# Altium schematic symbol library UserSchlib.SchLib: 86 symbols
Pins are listed as number, name and electrical type; pins without a type are passive.

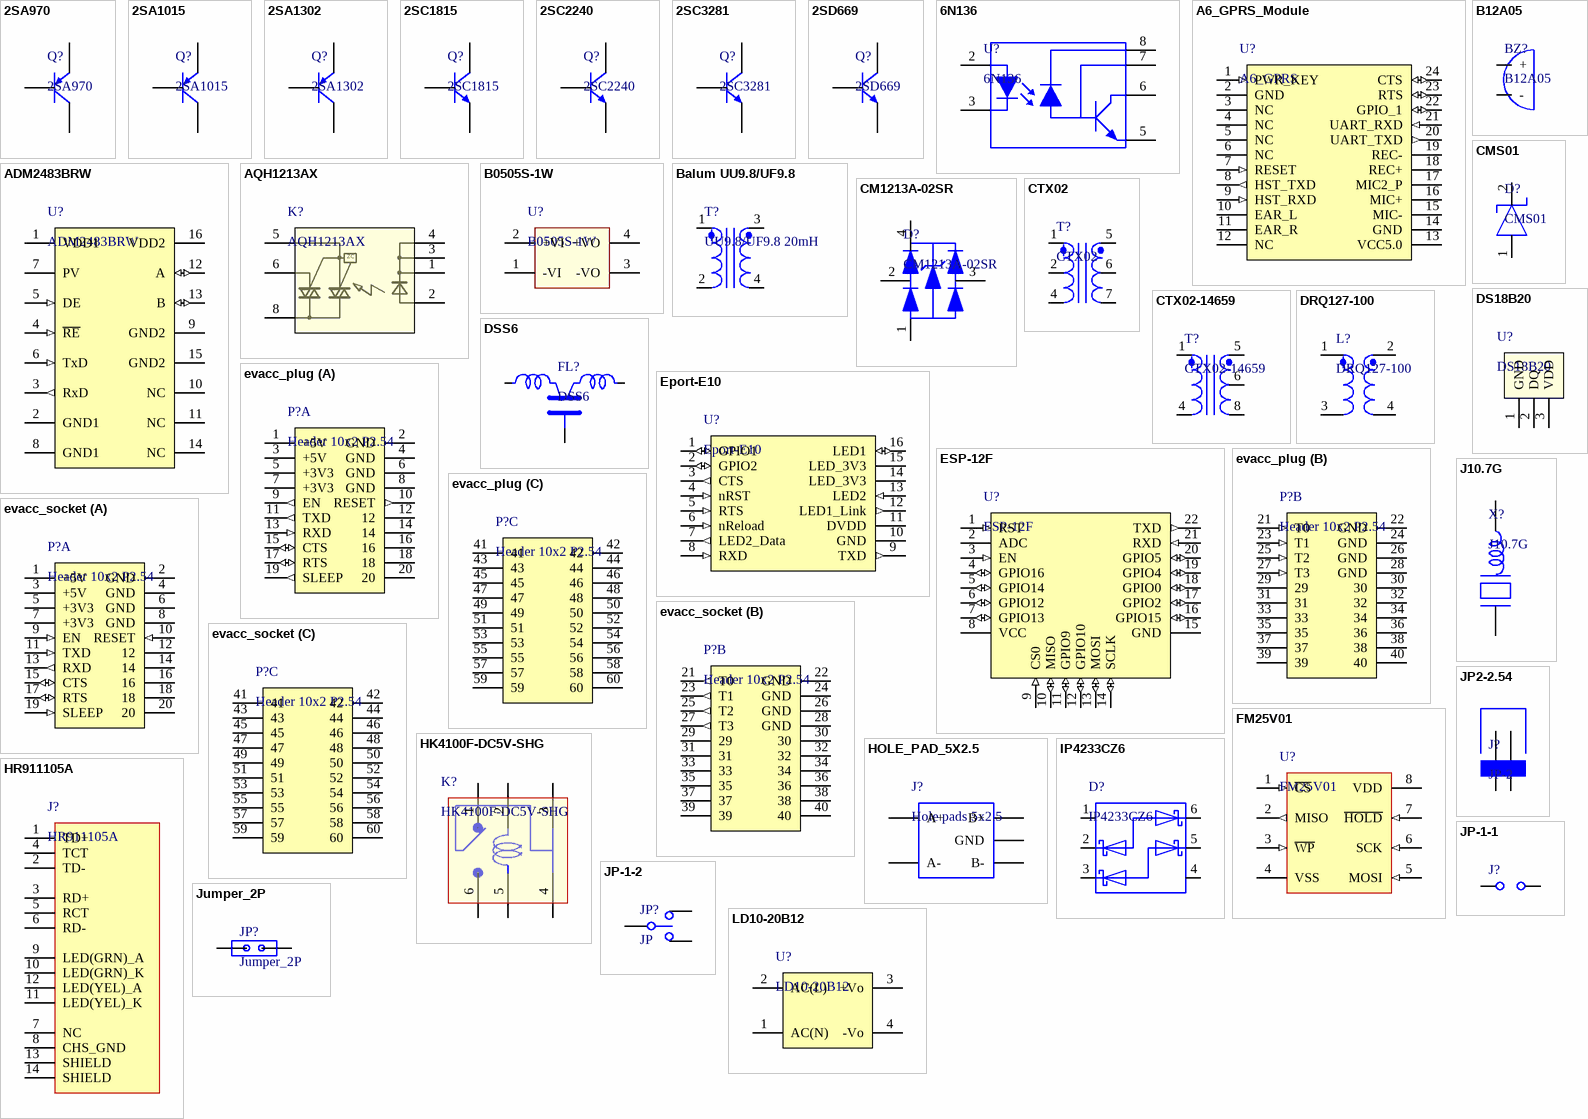
[diagram p0: symbols 2SA970 to LD10-20B12]

## 2SA970
designator Q?
TOSHIBA Transistor Silicon PNP Epitaxial Type for low noise audio amplifier applications
footprint TO-92 (TO, Flat Index; 3 In-Line, Axial Leads; Body Dia. 4.6mm; Leads 0.41 x 0.39 mm (max))
simulation model Model Name (Model Description)
pins: 1 E, 2 C, 3 B

## 2SA1015
designator Q?
TOSHIBA Transistor Silicon PNP Epitaxial Type
footprint TO-92 (TO, Flat Index; 3 In-Line, Axial Leads; Body Dia. 4.6mm; Leads 0.41 x 0.39 mm (max))
simulation model 2SA1015 (Model Description)
pins: 1 E, 2 C, 3 B

## 2SA1302
designator Q?
Silicon PNP expitaxial type for general purpose switching and  amplifier applications
footprint 2-21F1A (Toshiba); pin to pad 1>3 3>1
simulation model 2SA1302 (Model Description)
pins: 1 E, 2 C, 3 B

## 2SC1815
designator Q?
Toshiba transistor silicon NPN expitaxial type
footprint TO-92 (TO, Flat Index; 3 In-Line, Axial Leads; Body Dia. 4.6mm; Leads 0.41 x 0.39 mm (max))
simulation model 2SC1815 (Model Description)
pins: 1 E, 2 C, 3 B

## 2SC2240
designator Q?
TOSHIBA Transistor Silicon NPN Epitaxial Type Low Noise Audio Amplifier Applications
footprint TO-92 (TO, Flat Index; 3 In-Line, Axial Leads; Body Dia. 4.6mm; Leads 0.41 x 0.39 mm (max))
simulation model Model Name (Model Description)
pins: 1 E, 2 C, 3 B

## 2SC3281
designator Q?
Silicon NPN triple diffused type for power amplifier application
footprint 2-21F1A (Toshiba); pin to pad 1>3 3>1
simulation model 2SC3281 (Model Description)
pins: 1 E, 2 C, 3 B

## 2SD669
designator Q?
Low frequency power amplifier complementary pair with 2SB649/A
footprint TO-126 Mod
simulation model 2SD669 (Model Description)
pins: 1 E, 2 C, 3 B

## 6N136
designator U?
High Speed Optocoupler, 1 Mb/s, EverLight
footprint DIP-8 (DIP, 8-Pin, Row Spacing 7.62 mm, Pitch 2.54 mm)
pins: 2, 3, 5, 6, 7, 8

## A6_GPRS_Module
designator U?, comment A6_GPRS
GPRS module; Manufacturer: Ai ThinkerTecnology; Price: 23.8
footprint A6_GPRS_MOD
pins: 1 PWR_KEY (in), 2 GND (power), 3 NC (power), 4 NC (power), 5 NC (power), 6 NC (power), 7 RESET (in), 8 HST_TXD (out), 9 HST_RXD (in), 10 EAR_L, 11 EAR_R, 12 NC (power), 13 VCC5.0 (power), 14 GND (power), 15 MIC-, 16 MIC+, 17 MIC2_P, 18 REC+, 19 REC-, 20 UART_TXD (out), 21 UART_RXD (in), 22 GPIO_1 (io), 23 RTS (io), 24 CTS (io)

## ADM2483BRW
designator U?
ADI isolated RS-485 transceiver; Manufacturer: ADI; Price: 8.2
footprint RW16 (ADM2483 footprint)
pins: 1 VDD1 (power), 2 GND1 (power), 3 RxD (out), 4 ~{RE} (in), 5 DE (in), 6 TxD (in), 7 PV, 8 GND1 (power), 9 GND2 (power), 10 NC, 11 NC, 12 A (io), 13 B (io), 14 NC, 15 GND2 (power), 16 VDD2 (power)

## AQH1213AX
designator K?
AQ-H Relay; Manufacturer: Panasonic
footprint AQH1213AX
pins: 1, 2, 3, 4, 5 (power), 6 (power), 8 (power)
text: ZC

## B12A05
designator BZ?
Buzzor dc 5V dia12 h10
footprint BZ12/10mm
pins: 1 + (power), 2 - (power)

## B0505S-1W
designator U?
5V isolated DC-DC converter
footprint B0505S-W1 (DC-DC converter for RS485)
pins: 1 -VI, 2 +VI, 3 -VO, 4 +VO

## Balum UU9.8/UF9.8
designator T?, comment UU9.8/UF9.8 20mH
Balum
footprint UU9.8/UF9.8 (Balum)
pins: 1, 2, 3, 4

## CM1213A-02SR
designator D?
ON ESD protection diode for USB2.0, DVI, HDMI...
footprint SOT143N (SOT143, 4-Leads, Body 2.9x1.3mm, Pitch 1.9mm, Lead Span 2.5mm, IPC Medium Density)
pins: 1 Vn, 2 CH1, 3 CH2, 4 Vp

## CMS01
designator D?
TOSHIBA Schottky Barrier Rectifier
footprint 3-4E1A (TOSHIBA Schottky Barrier Rectifier)
pins: 1 A, 2 K

## CTX02
designator T?
Pri-100uH Sec-450uH
footprint CTX02
pins: 1, 2, 4, 5, 6, 7

## CTX02-14659
designator T?
XFMR,PUSH-PULL 547uH,ER9.
footprint CTX02-14569
pins: 1, 4, 5, 6, 8

## DRQ127-100
designator L?
Dual inductor
footprint DRQ127 (Dual inductor)
pins: 1, 2, 3, 4

## DS18B20
designator U?
Digital Temperature sensor; Manufacturer: Maxim; Price: *
footprint Model Name (Footprint not found)
pins: 1 GND, 2 DQ, 3 VDD

## DSS6
designator FL?
Murata EMI suppression filter; Manufacturer: Murata; Price: 0.5
footprint DSS6 (Murata EMI supression filter)
pins: 1, 2, 3

## Eport-E10
designator U?
http://www.iotworkshop.com
pins: 1 GPIO1 (io), 2 GPIO2 (io), 3 CTS (out), 4 nRST (in), 5 RTS (in), 6 nReload (in), 7 LED2_Data (out), 8 RXD (in), 9 TXD (out), 10 GND (power), 11 DVDD (power), 12 LED1_Link (out), 13 LED2 (in), 14 LED_3V3 (power), 15 LED_3V3 (power), 16 LED1 (io)

## ESP-12F
designator U?
Wi-Fi module; Manufacturer: Ai-Thinker; Price: 11.8
footprint ESP-12F (Ai-Thinker Wi-Fi module)
pins: 1 RST (in), 2 ADC, 3 EN (in), 4 GPIO16 (io), 5 GPIO14 (io), 6 GPIO12 (io), 7 GPIO13 (io), 8 VCC (power), 9 CS0 (in), 10 MISO (io), 11 GPIO9 (io), 12 GPIO10 (io), 13 MOSI (io), 14 SCLK (io), 15 GND (power), 16 GPIO15 (io), 17 GPIO2 (io), 18 GPIO0 (io), 19 GPIO4 (io), 20 GPIO5 (io), 21 RXD (in), 22 TXD (out)

## evacc_plug
designator P?, comment Header 10x2 P2.54
dual row 20 pins P2.54
footprint evacc_socket
part A pins: 1 +5V (power), 2 GND (power), 3 +5V (power), 4 GND (power), 5 +3V3 (power), 6 GND (power), 7 +3V3 (power), 8 GND (power), 9 EN (out), 10 RESET (out), 11 TXD (out), 12 (power), 13 RXD (in), 14 (power), 15 CTS (io), 16 (power), 17 RTS (io), 18 (power), 19 SLEEP (out), 20 (power)
part B pins: 21 T0 (in), 22 GND (power), 23 T1 (in), 24 GND (power), 25 T2 (in), 26 GND (power), 27 T3 (in), 28 GND (power), 29 (power), 30 (power), 31 (power), 32 (power), 33 (power), 34 (power), 35 (power), 36 (power), 37 (power), 38 (power), 39 (power), 40 (power)
part C pins: 41 (power), 42 (power), 43 (power), 44 (power), 45 (power), 46 (power), 47 (power), 48 (power), 49 (power), 50 (power), 51 (power), 52 (power), 53 (power), 54 (power), 55 (power), 56 (power), 57 (power), 58 (power), 59 (power), 60 (power)

## evacc_socket
designator P?, comment Header 10x2 P2.54
dual row 20 pins P2.54
footprint evacc_socket
part A pins: 1 +5V (power), 2 GND (power), 3 +5V (power), 4 GND (power), 5 +3V3 (power), 6 GND (power), 7 +3V3 (power), 8 GND (power), 9 EN (in), 10 RESET (in), 11 TXD (in), 12 (power), 13 RXD (out), 14 (power), 15 CTS (io), 16 (power), 17 RTS (io), 18 (power), 19 SLEEP (in), 20 (power)
part B pins: 21 T0 (out), 22 GND (power), 23 T1 (out), 24 GND (power), 25 T2 (out), 26 GND (power), 27 T3 (out), 28 GND (power), 29 (power), 30 (power), 31 (power), 32 (power), 33 (power), 34 (power), 35 (power), 36 (power), 37 (power), 38 (power), 39 (power), 40 (power)
part C pins: 41 (power), 42 (power), 43 (power), 44 (power), 45 (power), 46 (power), 47 (power), 48 (power), 49 (power), 50 (power), 51 (power), 52 (power), 53 (power), 54 (power), 55 (power), 56 (power), 57 (power), 58 (power), 59 (power), 60 (power)

## FM25V01
designator U?
Cypress 128K bits F-RAM
footprint SO8 (Small Outline; 8 Leads; Body Width 3.9 mm; Pitch 1.27 mm)
pins: 1 ~{CS} (in), 2 MISO (out), 3 ~{WP} (in), 4 VSS (power), 5 MOSI (in), 6 SCK (in), 7 ~{HOLD} (in), 8 VDD (power)

## HK4100F-DC5V-SHG
designator K?
HUI KE DC5V relay
footprint HK4100F-DC5V-SHG (HUI KE relay)
pins: 1, 2, 3, 4, 5, 6

## HOLE_PAD_5X2.5
designator J?, comment Hole pads 5x2.5
footprint HOLE_PAD_5_2.5 (High voltage output pads for energizer)
pins: 1 A+, 2 A-, 3 B+, 4 B-, 5 GND

## HR911105A
designator J?
RJ45 with two LEDs
footprint HR911105A (RJ45 connector w/ magnetic & LEDs)
pins: 1 TD+, 2 TD-, 3 RD+, 4 TCT, 5 RCT, 6 RD-, 7 NC, 8 CHS_GND, 9 LED(GRN)_A, 10 LED(GRN)_K, 11 LED(YEL)_K, 12 LED(YEL)_A, 13 SHIELD, 14 SHIELD

## IP4233CZ6
designator D?
NXP Ultra low capacitance ESD protection for Ethernet ports
footprint SOT363_L (SOT363, 6-Leads, Body 2x1.3mm, Pitch 0.65mm, Lead Span 2.1mm, IPC High Density)
footprint SOT363_M (SOT363, 6-Leads, Body 2x1.3mm, Pitch 0.65mm, Lead Span 2.1mm, IPC Low Density)
footprint SOT363_N (SOT363, 6-Leads, Body 2x1.3mm, Pitch 0.65mm, Lead Span 2.1mm, IPC Medium Density)
pins: 1, 2, 3, 4, 5, 6

## J10.7G
designator X?
Ceramic discriminator
footprint J10.7G (Ceramic discriminator 10.7MHz)
pins: 1, 2

## JP2-2.54
designator J?, comment JP-2
footprint JP2-P2.54 (2-pin jumper P2.54)
pins: 1 (power), 2 (power)

## JP-1-1
designator J?, comment JP1-1  (value not drawn)  (no BOM)
footprint JP-1-1 (2 points jumper)
pins: 1, 2

## JP-1-2
designator JP?, comment JP
footprint JP-1-2
pins: 1, 2, 3

## Jumper_2P
designator JP?
2-Pin jumper
footprint HDR1X2
pins: 1 0, 2 1

## LD10-20B12
designator U?
10W AC/DC converter, 12V output; Manufacturer: Mornsun; Price: *
pins: 1 AC(N) (power), 2 AC(L) (power), 3 +Vo (power), 4 -Vo (power)

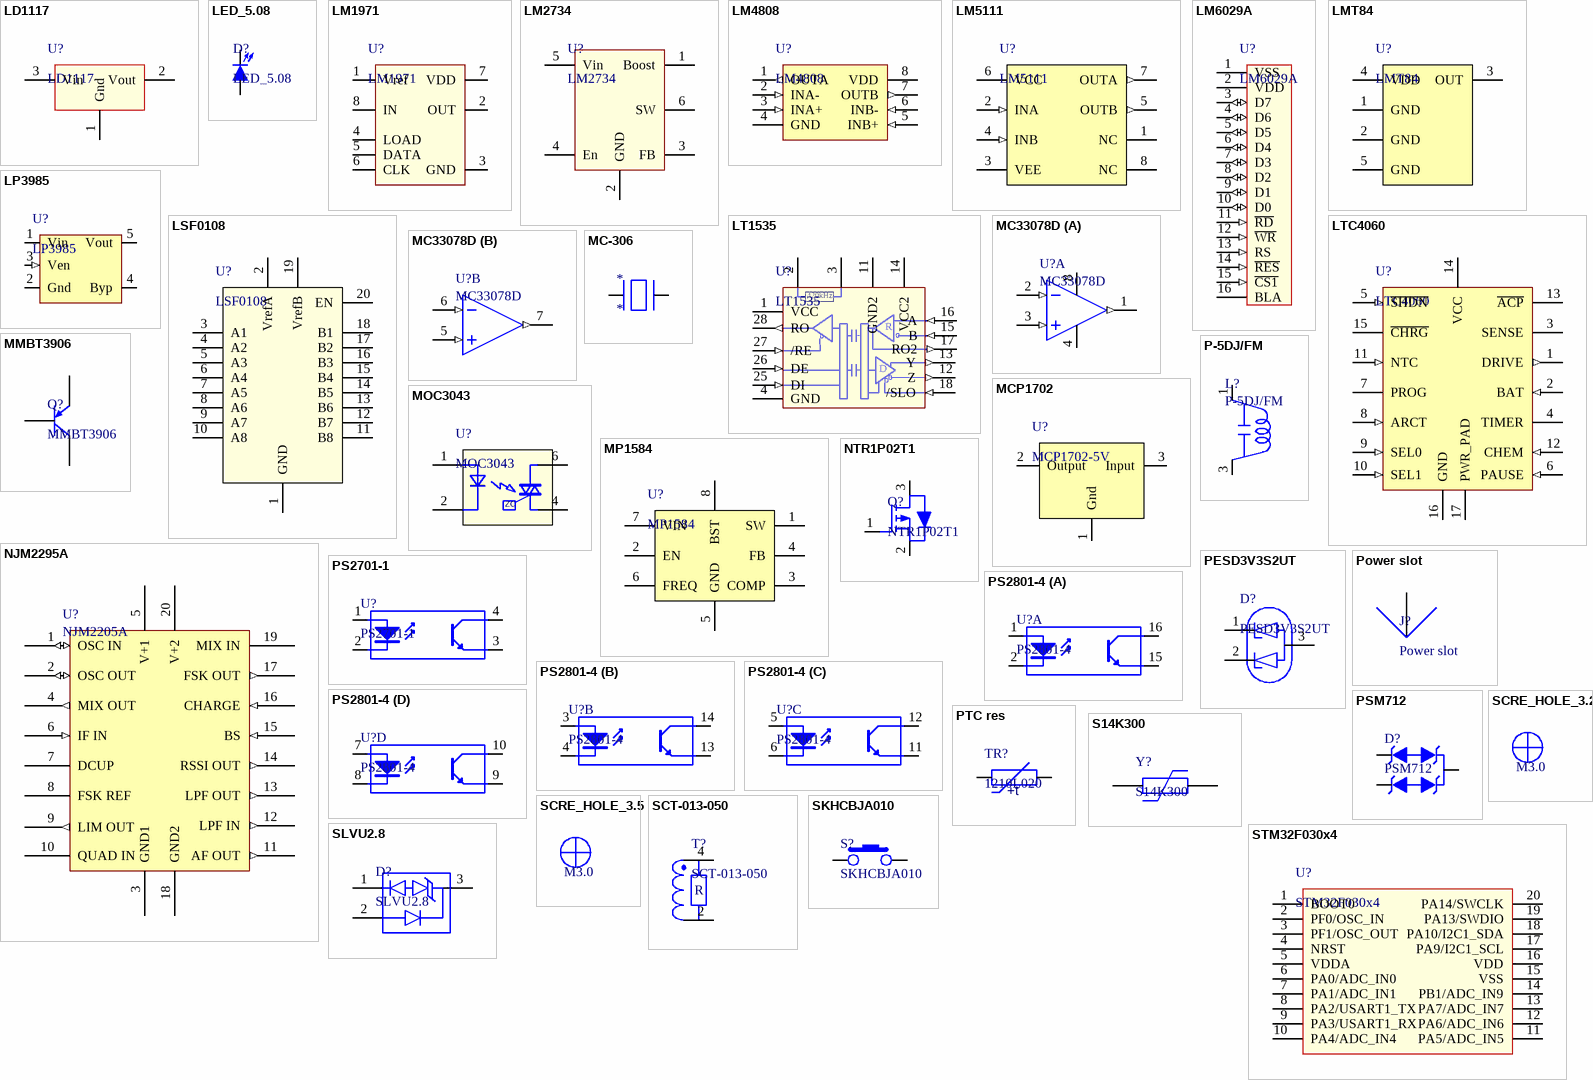
[diagram p1: symbols LD1117 to STM32F030x4]

## LD1117
designator U?
Low drop voltage regulator
footprint SOT223 (SOT-223/SC-73; 4 Leads; Body 6.7 x 7.3 mm, inc. leads (LxW max))
pins: 1 Gnd (power), 2 Vout (power), 3 Vin (power), 4 (power) hidden

## LED_5.08
designator D?
Through hole LED dia.5.08
footprint LED5.08/2.54-2
pins: 1 A, 2 K

## LM1971
designator U?
Audio attenuator
footprint SO8 (Small Outline; 8 Leads; Body Width 3.9 mm; Pitch 1.27 mm)
pins: 1 Vref, 2 OUT, 3 GND, 4 LOAD, 5 DATA, 6 CLK, 7 VDD, 8 IN

## LM2734
designator U?
Switching regulator
footprint SOT26A-6N (SOT23, 6-Leads, Body 2.9x1.7mm, Pitch 0.95mm, Lead Span 2.8mm, IPC Medium Density)
pins: 1 Boost, 2 GND (power), 3 FB, 4 En, 5 Vin (power), 6 SW

## LM4808
designator U?
Head phone amplifier 105mW
footprint SO8 (Small Outline; 8 Leads; Body Width 3.9 mm; Pitch 1.27 mm)
pins: 1 OUTA (out), 2 INA- (in), 3 INA+ (in), 4 GND (power), 5 INB+ (in), 6 INB- (in), 7 OUTB (out), 8 VDD (power)

## LM5111
designator U?
Dual 5-A CompoundGateDriver; Manufacturer: TI; Price: *
pins: 1 NC, 2 INA (in), 3 VEE (power), 4 INB (in), 5 OUTB (out), 6 VCC (power), 7 OUTA (out), 8 NC

## LM6029A
designator U?
Topway LCD module 3.3V
footprint LM6029A (LCD module)
pins: 1 VSS (power), 2 VDD (power), 3 D7 (io), 4 D6 (io), 5 D5 (io), 6 D4 (io), 7 D3 (io), 8 D2 (io), 9 D1 (io), 10 D0 (io), 11 ~{RD} (in), 12 ~{WR} (in), 13 RS (in), 14 ~{RES} (in), 15 ~{CS1} (in), 16 BLA (power)

## LMT84
designator U?
Analog Temperature Sensors with Class-AB Output; Manufacturer: TI
pins: 1 GND (power), 2 GND (power), 3 OUT (power), 4 VDD (power), 5 GND (power)

## LP3985
designator U?
150mA Low-Noise LDO
footprint SOT23-5AL (SOT23, 5-Leads, Body 2.9x1.6mm, Pitch 0.95mm, Lead Span 2.8mm, IPC High Density)
pins: 1 Vin (power), 2 Gnd (power), 3 Ven (in), 4 Byp, 5 Vout

## LSF0108
designator U?
8-bit bidirectional level translator; Manufacturer: TI; Price: *
pins: 1 GND (power), 2 VrefA (power), 3 A1 (power), 4 A2 (power), 5 A3 (power), 6 A4 (power), 7 A5 (power), 8 A6 (power), 9 A7 (power), 10 A8 (power), 11 B8 (power), 12 B7 (power), 13 B6 (power), 14 B5 (power), 15 B4 (power), 16 B3 (power), 17 B2 (power), 18 B1 (power), 19 VrefB (power), 20 EN (power)

## LT1535
designator U?
Isolated RS485 Transceiver
footprint SW28
pins: 1 VCC (power), 2 ST1, 3 ST2, 4 GND (power), 11 GND2 (power), 12 Z (out), 13 Y (out), 14 VCC2 (power), 15 B (in), 16 A (in), 17 RO2 (out), 18 /SLO (in), 25 DI (in), 26 DE (in), 27 /RE (in), 28 RO (out)
text: 420kHz; R; D

## LTC4060
designator U?
Linera NiMH/NiCd battery charger
footprint TSSOP16 w/ exposed metal die mount pads
pins: 1 DRIVE (out), 2 BAT (in), 3 SENSE, 4 TIMER, 5 ~{SHDN} (in), 6 PAUSE (in), 7 PROG, 8 ARCT (in), 9 SEL0 (in), 10 SEL1 (in), 11 NTC (in), 12 CHEM (in), 13 ~{ACP} (oc), 14 VCC, 15 ~{CHRG} (oc), 16 GND (power), 17 PWR_PAD (power)

## MC33078D
designator U?
Low noise dual op-amp
footprint SO8_N (8-Pin Small Outline Integrated Circuit 1.27 mm Pitch, IPC Medium Density)
part A pins: 1 (out), 2 - (in), 3 + (in), 4 V- (power), 8 V+ (power)
part B pins: 5 + (in), 6 - (in), 7 1 (out)

## MC-306
designator *
footprint MC306 (Epson 32.768kHz crystal)
pins: 1, 4

## MCP1702
designator U?, comment MCP1702-5V
Microchip Low drop voltage regulator
footprint SOT23-3N (SOT23, 3-Leads, Body 2.9x1.3mm, Pitch 0.95mm, Lead Span 2.5mm, IPC Medium Density)
pins: 1 Gnd (power), 2 Output, 3 Input (power)

## MMBT3906
designator Q?
General purpose small signal PNP transistor
footprint SOT23-3N (SOT23, 3-Leads, Body 2.9x1.3mm, Pitch 0.95mm, Lead Span 2.5mm, IPC Medium Density)
pins: 1 B, 2 E, 3 C

## MOC3043
designator U?
Optical isolator triac driver; Manufacturer: Panasonic
footprint MOC3043
pins: 1, 2, 4, 6 (power)
text: ZC

## MP1584
designator U?
3A 1.5MHz, 28V step down converter; Manufacturer: MSP; Price: *
footprint SOIC8E
pins: 1 SW (power), 2 EN (power), 3 COMP (power), 4 FB (power), 5 GND (power), 6 FREQ (power), 7 VIN (power), 8 BST (power)

## NJM2295A
designator U?, comment NJM2205A
NJR FM IF IC for the remote keyless entry  system (RKE)
footprint SSOP20 (SSOP, Plastic; 20 Leads; Body Width 5.3 mm; Pitch 0.65 mm)
pins: 1 OSC IN (io), 2 OSC OUT (io), 3 GND1, 4 MIX OUT (out), 5 V+1, 6 IF IN (in), 7 DCUP, 8 FSK REF, 9 LIM OUT (out), 10 QUAD IN, 11 AF OUT (out), 12 LPF IN (out), 13 LPF OUT (out), 14 RSSI OUT (out), 15 BS (in), 16 CHARGE (in), 17 FSK OUT (out), 18 GND2 (power), 19 MIX IN, 20 V+2

## NTR1P02T1
designator Q?
ON Power MOSFET  ?20 V, ?1 A, P?Channel
footprint SOT23-3L (SOT23, 3-Leads, Body 2.9x1.3mm, Pitch 0.95mm, Lead Span 2.5mm, IPC High Density)
pins: 1 G, 2 S, 3 D

## P-5DJ/FM
designator L?
Sumida IFT coil 10.7MHz
footprint P-5DJ/FM (Sumida IFT)
pins: 1, 3

## PESD3V3S2UT
designator D?
ESD protection diode 3.3V; Manufacturer: NXP
footprint SOT23-3N (SOT23, 3-Leads, Body 2.9x1.3mm, Pitch 0.95mm, Lead Span 2.5mm, IPC Medium Density)
pins: 1, 2, 3

## Power slot
designator J?
footprint Power slot
pins: 1

## PS2701-1
designator U?
Photocoupler
footprint SOP4 for PS2701-1
pins: 1 A "Anode", 2 K "Cathode", 3 E "Emitter", 4 C "Collector"

## PS2801-4
designator U?
Photocoupler
footprint SOP16 for PS2801-4 - duplicate
part A pins: 1 A "Anode", 2 K "Cathode", 15 E "Emitter", 16 C "Collector"
part B pins: 3 A "Anode", 4 K "Cathode", 13 E "Emitter", 14 C "Collector"
part C pins: 5 A "Anode", 6 K "Cathode", 11 E "Emitter", 12 C "Collector"
part D pins: 7 A "Anode", 8 K "Cathode", 9 E "Emitter", 10 C "Collector"

## PSM712
designator D?
asymmetrical transient voltage suppressor (TVS) array, designed specifically for RS-485; Manufacturer: Protek
footprint SOT23-3N (SOT23, 3-Leads, Body 2.9x1.3mm, Pitch 0.95mm, Lead Span 2.5mm, IPC Medium Density)
pins: 1, 2, 3

## PTC res
designator TR?, comment 1210L020
PTC resistor; Manufacturer: Littlefuse; Price: *
footprint RESC3225N (Chip Resistor, Body 3.2x2.5mm, IPC Medium Density)
pins: 1, 2
text: +t

## S14K300
designator Y?
Varistor 300V
pins: 1 (power), 2 (power)

## SCRE_HOLE_3.2
designator H?, comment M3.0  (value not drawn)  (no BOM)
Screw hole for M3.0
footprint SCREW_HOLE_3.2

## SCRE_HOLE_3.5
designator H?, comment M3.0  (value not drawn)  (no BOM)
Screw hole for M3.0
footprint SCREW_HOLE_3.5

## SCT-013-050
designator T?
Current transformer 50A input 1V output; Manufacturer: www.yhdc.com; Price: ?
footprint PJ-313 (Phone jack 3.5mm 3 pins)
pins: 2, 4
text: R

## SKHCBJA010
designator S?
Alps tact switch 12x12
footprint SKHCBJA010 (Alps SKHC series switch 12x12)
pins: 1, 3

## SLVU2.8
designator D?
Semtech TVS for Ethernet 10/100
footprint SOT23-3N (SOT23, 3-Leads, Body 2.9x1.3mm, Pitch 0.95mm, Lead Span 2.5mm, IPC Medium Density)
pins: 1, 2, 3

## STM32F030x4
designator U?
ST micro-controller
pins: 1 BOOT0, 2 PF0/OSC_IN, 3 PF1/OSC_OUT, 4 NRST, 5 VDDA, 6 PA0/ADC_IN0, 7 PA1/ADC_IN1, 8 PA2/USART1_TX, 9 PA3/USART1_RX, 10 PA4/ADC_IN4, 11 PA5/ADC_IN5, 12 PA6/ADC_IN6, 13 PA7/ADC_IN7, 14 PB1/ADC_IN9, 15 VSS, 16 VDD, 17 PA9/I2C1_SCL, 18 PA10/I2C1_SDA, 19 PA13/SWDIO, 20 PA14/SWCLK

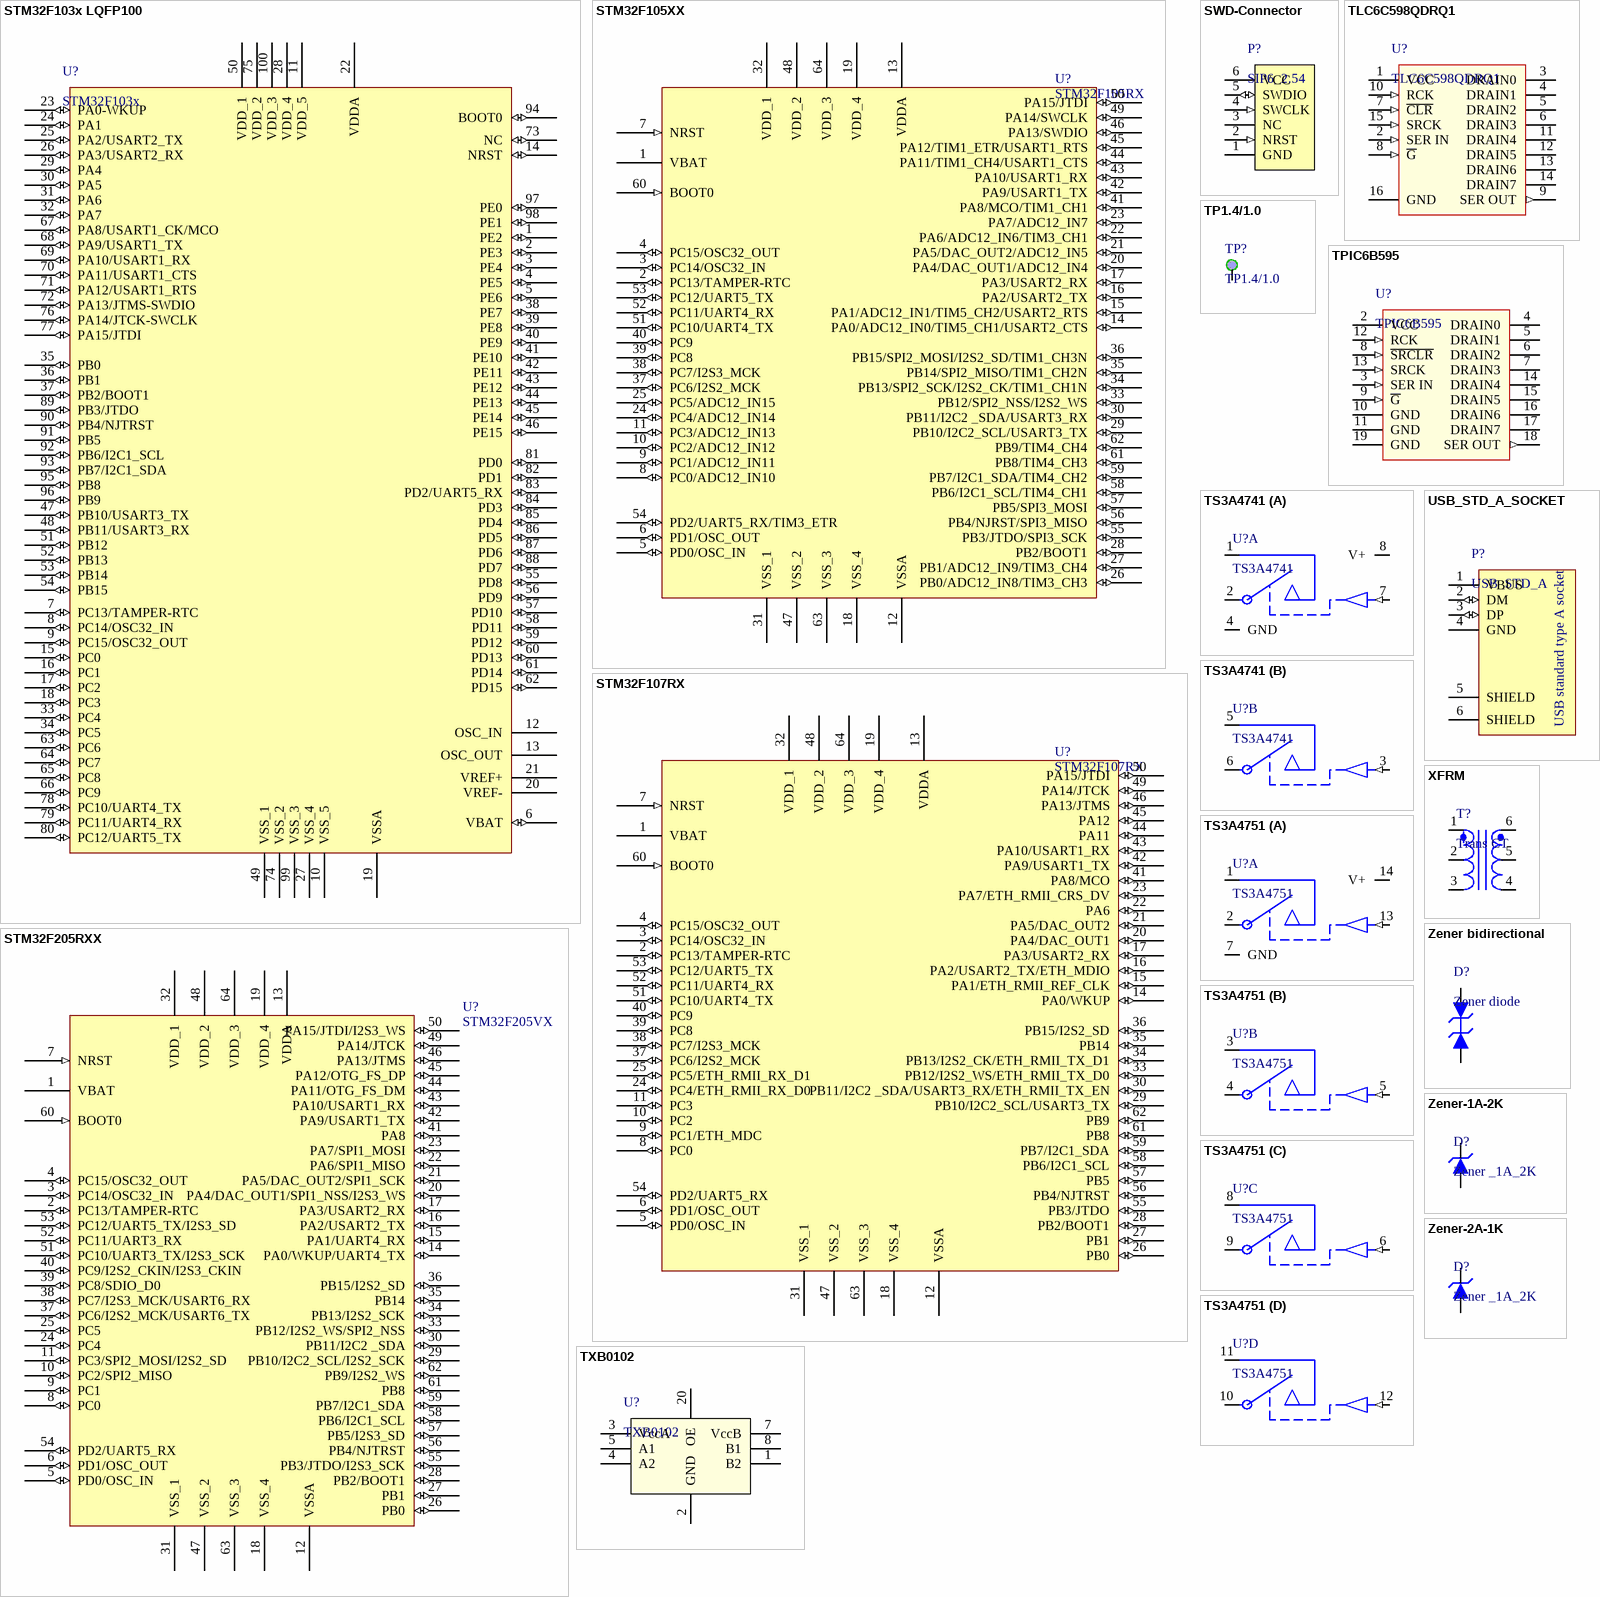
[diagram p2: symbols STM32F103x LQFP100 to Zener-2A-1K]

## STM32F103x LQFP100
designator U?, comment STM32F103x
footprint TQFP100_M (100-Pin Thin Quad Flat Pack 0.5 mm Pitch, IPC Low Density)
pins: 1 PE2 (io), 2 PE3 (io), 3 PE4 (io), 4 PE5 (io), 5 PE6 (io), 6 VBAT (io), 7 PC13/TAMPER-RTC (io), 8 PC14/OSC32_IN (io), 9 PC15/OSC32_OUT (io), 10 VSS_5 (power), 11 VDD_5 (power), 12 OSC_IN, 13 OSC_OUT, 14 NRST (io), 15 PC0 (io), 16 PC1 (io), 17 PC2 (io), 18 PC3 (io), 19 VSSA (power), 20 VREF- (power), 21 VREF+ (power), 22 VDDA (power), 23 PA0-WKUP (io), 24 PA1 (io), 25 PA2/USART2_TX (io), 26 PA3/USART2_RX (io), 27 VSS_4 (power), 28 VDD_4 (power), 29 PA4 (io), 30 PA5 (io), 31 PA6 (io), 32 PA7 (io), 33 PC4 (io), 34 PC5 (io), 35 PB0 (io), 36 PB1 (io), 37 PB2/BOOT1 (io), 38 PE7 (io), 39 PE8 (io), 40 PE9 (io), 41 PE10 (io), 42 PE11 (io), 43 PE12 (io), 44 PE13 (io), 45 PE14 (io), 46 PE15 (io), 47 PB10/USART3_TX (io), 48 PB11/USART3_RX (io), 49 VSS_1 (power), 50 VDD_1 (power), 51 PB12 (io), 52 PB13 (io), 53 PB14 (io), 54 PB15 (io), 55 PD8 (io), 56 PD9 (io), 57 PD10 (io), 58 PD11 (io), 59 PD12 (io), 60 PD13 (io), 61 PD14 (io), 62 PD15 (io), 63 PC6 (io), 64 PC7 (io), 65 PC8 (io), 66 PC9 (io), 67 PA8/USART1_CK/MCO (io), 68 PA9/USART1_TX (io), 69 PA10/USART1_RX (io), 70 PA11/USART1_CTS (io), 71 PA12/USART1_RTS (io), 72 PA13/JTMS-SWDIO (io), 73 NC (io), 74 VSS_2 (power), 75 VDD_2 (power), 76 PA14/JTCK-SWCLK (io), 77 PA15/JTDI (io), 78 PC10/UART4_TX (io), 79 PC11/UART4_RX (io), 80 PC12/UART5_TX (io), 81 PD0 (io), 82 PD1 (io), 83 PD2/UART5_RX (io), 84 PD3 (io), 85 PD4 (io), 86 PD5 (io), 87 PD6 (io), 88 PD7 (io), 89 PB3/JTDO (io), 90 PB4/NJTRST (io), 91 PB5 (io), 92 PB6/I2C1_SCL (io), 93 PB7/I2C1_SDA (io), 94 BOOT0 (io), 95 PB8 (io), 96 PB9 (io), 97 PE0 (io), 98 PE1 (io), 99 VSS_3 (power), 100 VDD_3 (power)

## STM32F105XX
designator U?, comment STM32F105RX
ST Cortex M3 MCU 64 pins
footprint TQFP64_M (64-Pin Thin Quad Flat Pack 0.5 mm Pitch, IPC Low Density)
footprint TQFP64_N (64-Pin Thin Quad Flat Pack 0.5 mm Pitch, IPC Medium Density)
pins: 1 VBAT (power), 2 PC13/TAMPER-RTC (io), 3 PC14/OSC32_IN (io), 4 PC15/OSC32_OUT (io), 5 PD0/OSC_IN (io), 6 PD1/OSC_OUT (io), 7 NRST (in), 8 PC0/ADC12_IN10 (io), 9 PC1/ADC12_IN11 (io), 10 PC2/ADC12_IN12 (io), 11 PC3/ADC12_IN13 (io), 12 VSSA (power), 13 VDDA (power), 14 PA0/ADC12_IN0/TIM5_CH1/USART2_CTS (io), 15 PA1/ADC12_IN1/TIM5_CH2/USART2_RTS (io), 16 PA2/USART2_TX (io), 17 PA3/USART2_RX (io), 18 VSS_4 (power), 19 VDD_4 (power), 20 PA4/DAC_OUT1/ADC12_IN4 (io), 21 PA5/DAC_OUT2/ADC12_IN5 (io), 22 PA6/ADC12_IN6/TIM3_CH1 (io), 23 PA7/ADC12_IN7 (io), 24 PC4/ADC12_IN14 (io), 25 PC5/ADC12_IN15 (io), 26 PB0/ADC12_IN8/TIM3_CH3 (io), 27 PB1/ADC12_IN9/TIM3_CH4 (io), 28 PB2/BOOT1 (io), 29 PB10/I2C2_SCL/USART3_TX (io), 30 PB11/I2C2 _SDA/USART3_RX (io), 31 VSS_1 (power), 32 VDD_1 (power), 33 PB12/SPI2_NSS/I2S2_WS (io), 34 PB13/SPI2_SCK/I2S2_CK/TIM1_CH1N (io), 35 PB14/SPI2_MISO/TIM1_CH2N (io), 36 PB15/SPI2_MOSI/I2S2_SD/TIM1_CH3N (io), 37 PC6/I2S2_MCK (io), 38 PC7/I2S3_MCK (io), 39 PC8 (io), 40 PC9 (io), 41 PA8/MCO/TIM1_CH1 (io), 42 PA9/USART1_TX (io), 43 PA10/USART1_RX (io), 44 PA11/TIM1_CH4/USART1_CTS (io), 45 PA12/TIM1_ETR/USART1_RTS (io), 46 PA13/SWDIO (io), 47 VSS_2 (power), 48 VDD_2 (power), 49 PA14/SWCLK (io), 50 PA15/JTDI (io), 51 PC10/UART4_TX (io), 52 PC11/UART4_RX (io), 53 PC12/UART5_TX (io), 54 PD2/UART5_RX/TIM3_ETR (io), 55 PB3/JTDO/SPI3_SCK (io), 56 PB4/NJRST/SPI3_MISO (io), 57 PB5/SPI3_MOSI (io), 58 PB6/I2C1_SCL/TIM4_CH1 (io), 59 PB7/I2C1_SDA/TIM4_CH2 (io), 60 BOOT0 (in), 61 PB8/TIM4_CH3 (io), 62 PB9/TIM4_CH4 (io), 63 VSS_3 (power), 64 VDD_3 (power)

## STM32F107RX
designator U?
ST Cortex M3 MCU 64 pins
footprint TQFP64_M (64-Pin Thin Quad Flat Pack 0.5 mm Pitch, IPC Low Density)
footprint TQFP64_N (64-Pin Thin Quad Flat Pack 0.5 mm Pitch, IPC Medium Density)
pins: 1 VBAT (power), 2 PC13/TAMPER-RTC (io), 3 PC14/OSC32_IN (io), 4 PC15/OSC32_OUT (io), 5 PD0/OSC_IN (io), 6 PD1/OSC_OUT (io), 7 NRST (in), 8 PC0 (io), 9 PC1/ETH_MDC (io), 10 PC2 (io), 11 PC3 (io), 12 VSSA (power), 13 VDDA (power), 14 PA0/WKUP (io), 15 PA1/ETH_RMII_REF_CLK (io), 16 PA2/USART2_TX/ETH_MDIO (io), 17 PA3/USART2_RX (io), 18 VSS_4 (power), 19 VDD_4 (power), 20 PA4/DAC_OUT1 (io), 21 PA5/DAC_OUT2 (io), 22 PA6 (io), 23 PA7/ETH_RMII_CRS_DV (io), 24 PC4/ETH_RMII_RX_D0 (io), 25 PC5/ETH_RMII_RX_D1 (io), 26 PB0 (io), 27 PB1 (io), 28 PB2/BOOT1 (io), 29 PB10/I2C2_SCL/USART3_TX (io), 30 PB11/I2C2 _SDA/USART3_RX/ETH_RMII_TX_EN (io), 31 VSS_1 (power), 32 VDD_1 (power), 33 PB12/I2S2_WS/ETH_RMII_TX_D0 (io), 34 PB13/I2S2_CK/ETH_RMII_TX_D1 (io), 35 PB14 (io), 36 PB15/I2S2_SD (io), 37 PC6/I2S2_MCK (io), 38 PC7/I2S3_MCK (io), 39 PC8 (io), 40 PC9 (io), 41 PA8/MCO (io), 42 PA9/USART1_TX (io), 43 PA10/USART1_RX (io), 44 PA11 (io), 45 PA12 (io), 46 PA13/JTMS (io), 47 VSS_2 (power), 48 VDD_2 (power), 49 PA14/JTCK (io), 50 PA15/JTDI (io), 51 PC10/UART4_TX (io), 52 PC11/UART4_RX (io), 53 PC12/UART5_TX (io), 54 PD2/UART5_RX (io), 55 PB3/JTDO (io), 56 PB4/NJTRST (io), 57 PB5 (io), 58 PB6/I2C1_SCL (io), 59 PB7/I2C1_SDA (io), 60 BOOT0 (in), 61 PB8 (io), 62 PB9 (io), 63 VSS_3 (power), 64 VDD_3 (power)

## STM32F205RXX
designator U?, comment STM32F205VX
ST Cortex M3 MCU 64 pins
footprint TQFP64_N (64-Pin Thin Quad Flat Pack 0.5 mm Pitch, IPC Medium Density)
pins: 1 VBAT (power), 2 PC13/TAMPER-RTC (io), 3 PC14/OSC32_IN (io), 4 PC15/OSC32_OUT (io), 5 PD0/OSC_IN (io), 6 PD1/OSC_OUT (io), 7 NRST (in), 8 PC0 (io), 9 PC1 (io), 10 PC2/SPI2_MISO (io), 11 PC3/SPI2_MOSI/I2S2_SD (io), 12 VSSA (power), 13 VDDA (power), 14 PA0/WKUP/UART4_TX (io), 15 PA1/UART4_RX (io), 16 PA2/USART2_TX (io), 17 PA3/USART2_RX (io), 18 VSS_4 (power), 19 VDD_4 (power), 20 PA4/DAC_OUT1/SPI1_NSS/I2S3_WS (io), 21 PA5/DAC_OUT2/SPI1_SCK (io), 22 PA6/SPI1_MISO (io), 23 PA7/SPI1_MOSI (io), 24 PC4 (io), 25 PC5 (io), 26 PB0 (io), 27 PB1 (io), 28 PB2/BOOT1 (io), 29 PB10/I2C2_SCL/I2S2_SCK (io), 30 PB11/I2C2 _SDA (io), 31 VSS_1 (power), 32 VDD_1 (power), 33 PB12/I2S2_WS/SPI2_NSS (io), 34 PB13/I2S2_SCK (io), 35 PB14 (io), 36 PB15/I2S2_SD (io), 37 PC6/I2S2_MCK/USART6_TX (io), 38 PC7/I2S3_MCK/USART6_RX (io), 39 PC8/SDIO_D0 (io), 40 PC9/I2S2_CKIN/I2S3_CKIN (io), 41 PA8 (io), 42 PA9/USART1_TX (io), 43 PA10/USART1_RX (io), 44 PA11/OTG_FS_DM (io), 45 PA12/OTG_FS_DP (io), 46 PA13/JTMS (io), 47 VSS_2 (power), 48 VDD_2 (power), 49 PA14/JTCK (io), 50 PA15/JTDI/I2S3_WS (io), 51 PC10/UART3_TX/I2S3_SCK (io), 52 PC11/UART3_RX (io), 53 PC12/UART5_TX/I2S3_SD (io), 54 PD2/UART5_RX (io), 55 PB3/JTDO/I2S3_SCK (io), 56 PB4/NJTRST (io), 57 PB5/I2S3_SD (io), 58 PB6/I2C1_SCL (io), 59 PB7/I2C1_SDA (io), 60 BOOT0 (in), 61 PB8 (io), 62 PB9/I2S2_WS (io), 63 VSS_3 (power), 64 VDD_3 (power)

## SWD-Connector
designator P?, comment SIP6_2.54
SW debug connector
footprint REAL_SIP6_2.54
pins: 1 GND (power), 2 NRST (in), 3 NC (power), 4 SWCLK (in), 5 SWDIO (io), 6 VCC (power)

## TLC6C598QDRQ1
designator U?
TI power logic 8 bits shift register
footprint SO16 (Small Outline; 16 Leads; Body Width 3.9 mm; Pitch 1.27 mm)
pins: 1 VCC (power), 2 SER IN (in), 3 DRAIN0 (oc), 4 DRAIN1 (oc), 5 DRAIN2 (oc), 6 DRAIN3 (oc), 7 ~{CLR} (in), 8 ~{G} (in), 9 SER OUT (out), 10 RCK (in), 11 DRAIN4 (oc), 12 DRAIN5 (oc), 13 DRAIN6 (oc), 14 DRAIN7 (oc), 15 SRCK (in), 16 GND (power)

## TP1.4/1.0
designator TP?  (no BOM)
footprint TP1.4/1.0
pins: 1

## TPIC6B595
designator U?
TI power logic 8 bits shift register
footprint SO20W (Small Outline; 20 Leads; Body Width 7.5 mm; Pitch 1.27 mm)
pins: 2 VCC (power), 3 SER IN (in), 4 DRAIN0 (oc), 5 DRAIN1 (oc), 6 DRAIN2 (oc), 7 DRAIN3 (oc), 8 ~{SRCLR} (in), 9 ~{G} (in), 10 GND (power), 11 GND (power), 12 RCK (in), 13 SRCK (in), 14 DRAIN4 (oc), 15 DRAIN5 (oc), 16 DRAIN6 (oc), 17 DRAIN7 (oc), 18 SER OUT (out), 19 GND (power)

## TS3A4741
designator U?
TI 0.9-Ω LOW-VOLTAGE SINGLE-SUPPLY DUAL SPST ANALOG SWITCH
footprint MSOP8 (Shrink Small Outline; 8 Leads; Body Width 3 mm; Pitch 0.65 mm)
part A pins: 1 NO1, 2 COM1, 4 GND (power), 7 IN1 (in), 8 V+ (power)
part B pins: 3 IN2 (in), 5 NO2, 6 COM2

## TS3A4751
designator U?
TI 0.9-Ω LOW-VOLTAGE SINGLE-SUPPLY QUAD SPST ANALOG SWITCH
footprint PW014 (Shrink Small Outline; 14 Leads; Body Width 4.4 mm; Pitch 0.65 mm)
part A pins: 1 NO1, 2 COM1, 7 GND (power), 13 IN1 (in), 14 V+ (power)
part B pins: 3 NO2, 4 COM2, 5 IN2 (in)
part C pins: 6 IN3 (in), 8 NO3, 9 COM3
part D pins: 10 COM4, 11 NO4, 12 IN4 (in)

## TXB0102
designator U?
2-bit bidirectional level translator; Manufacturer: TI; Price: *
pins: 1 B2 (power), 2 GND (power), 3 VccA (power), 4 A2 (power), 5 A1 (power), 7 VccB (power), 8 B1 (power), 20 OE (power)

## USB_STD_A_SOCKET
designator P?, comment USB_STD_A
USB standard type A socket
footprint USB2.5-2H4B (Connector; USB1.1, Type A, Thru-Hole; 4 Position; Right Angle)
pins: 1 VBUS (power), 2 DM (io), 3 DP (io), 4 GND (power), 5 SHIELD (power), 6 SHIELD (power)

## XFRM
designator T?, comment Trans CT
XFMR w/ CT
pins: 1, 2, 3, 4, 5, 6

## Zener bidirectional
designator D?, comment Zener diode
Bidirectional zener diode; Manufacturer: ON
pins: 1, 2

## Zener-1A-2K
designator D?, comment Zener _1A_2K
Zener diode
pins: 1 A, 2 K

## Zener-2A-1K
designator D?, comment Zener _1A_2K
Zener diode
pins: 1 K, 2 A